# EAGLE library part BNO080 (library BNO080)
IMU ACCEL/GYRO/MAG I2C 32BIT Source: Datasheet <http://www.hillcrestlabs.com/download/5a05f340566d07c196001ec1>
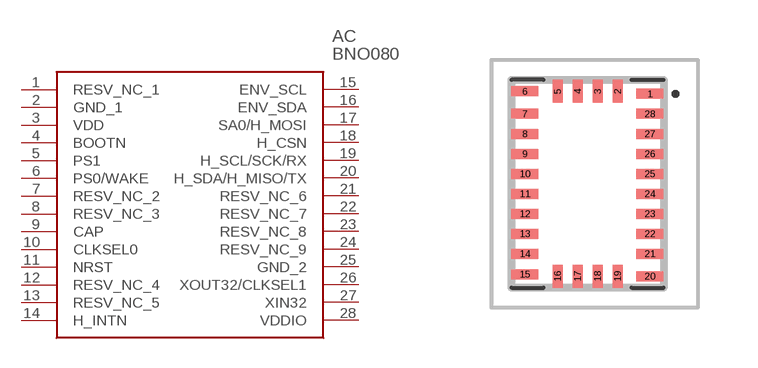
[diagram p0: symbol with the pads of BNO080; footprint BNO080]

Designator prefix AC

## BNO080 (Description: IMU ACCEL/GYRO/MAG I2C 32BIT; Height: 1.18mm; Manufacturer_Name: Hillcrest Laboratories, Inc.; Manufacturer_Part_Number: BNO080)  [BNO080]
1  RESV_NC_1
2  GND_1
3  VDD
4  BOOTN
5  PS1
6  PS0/WAKE
7  RESV_NC_2
8  RESV_NC_3
9  CAP
10  CLKSEL0
11  NRST
12  RESV_NC_4
13  RESV_NC_5
14  H_INTN
15  ENV_SCL
16  ENV_SDA
17  SA0/H_MOSI
18  H_CSN
19  H_SCL/SCK/RX
20  H_SDA/H_MISO/TX
21  RESV_NC_6
22  RESV_NC_7
23  RESV_NC_8
24  RESV_NC_9
25  GND_2
26  XOUT32/CLKSEL1
27  XIN32
28  VDDIO

## Footprint BNO080 (pad centres in mm)
BNO080-2
smd 0.675 x 0.25: 1 1.387,2.25; 6 -1.738,2.313; 7 -1.738,1.75; 8 -1.738,1.25; 9 -1.738,0.75; 10 -1.738,0.25; 11 -1.738,-0.25; 12 -1.738,-0.75; 13 -1.738,-1.25; 14 -1.738,-1.75; 15 -1.738,-2.263; 20 1.387,-2.313; 21 1.387,-1.75; 22 1.387,-1.25; 23 1.387,-0.75; 24 1.387,-0.25; 25 1.387,0.25; 26 1.387,0.75; 27 1.387,1.25; 28 1.387,1.75
smd 0.25 x 0.575: 2 0.575,2.313; 3 0.075,2.313; 4 -0.425,2.313; 5 -0.925,2.313; 16 -0.925,-2.313; 17 -0.425,-2.313; 18 0.075,-2.313; 19 0.575,-2.313